# Altium schematic symbol library Clock.SchLib: 8 symbols
Pins are listed as number, name and electrical type; pins without a type are passive.

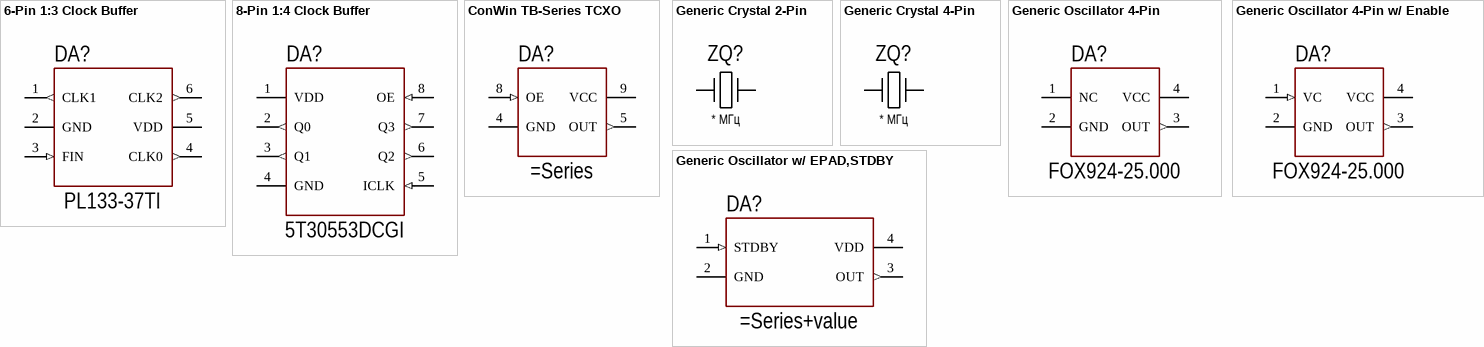
[diagram p0: symbols 6-Pin 1:3 Clock Buffer to Generic Oscillator w/ EPAD,STDBY]

## 6-Pin 1:3 Clock Buffer
designator DA?, comment PL133-37TI
1:3 Clock Buffer, 6-Lead Package; Temp: I; Package: T; Part: PL133-37
pins: 1 CLK1 (out), 2 GND, 3 FIN (in), 4 CLK0 (out), 5 VDD, 6 CLK2 (out)

## 8-Pin 1:4 Clock Buffer
designator DA?, comment 5T30553DCGI
1:4 Clock Buffer, 8-Lead Package; Package: DCGI; Series: 5T30553
pins: 1 VDD, 2 Q0 (out), 3 Q1 (out), 4 GND, 5 ICLK (in), 6 Q2 (out), 7 Q3 (out), 8 OE (in)

## ConWin TB-Series TCXO
designator DA?
Connor Winfield TB Series TCXO
pins: 4 GND, 5 OUT (out), 8 OE (in), 9 VCC

## Generic Crystal 2-Pin
designator ZQ?, comment Value_SCH: * МГц  (hidden comment: *-*-*)
Generic Quartz Resonator, 2 Pin; Series: *; Value: *; Index: *
pins: 1, 2

## Generic Crystal 4-Pin
designator ZQ?, comment Value_SCH: * МГц  (hidden comment: *-*-*)
Generic Quartz Resonator, 4 Pin; Series: *; Value: *; Index: *
pins: 1, 2 hidden to GND, 3, 4 hidden to GND

## Generic Oscillator 4-Pin
designator DA?, comment FOX924-25.000
Generic XO; Value: 25.000; Series: FOX924
pins: 1 NC, 2 GND, 3 OUT (out), 4 VCC

## Generic Oscillator 4-Pin w/ Enable
designator DA?, comment FOX924-25.000
Generic XO with Enable/Disable Control; Value: 25.000; Series: FOX924
pins: 1 VC (in), 2 GND, 3 OUT (out), 4 VCC

## Generic Oscillator w/ EPAD,STDBY
designator DA?
XO with Standby Input and Exposed Pad
pins: 1 STDBY (in), 2 GND, 3 OUT (out), 4 VDD, PAD GND hidden to GND